# Altium schematic symbol library MaWei.SchLib: 69 symbols
Pins are listed as number, name and electrical type; pins without a type are passive.

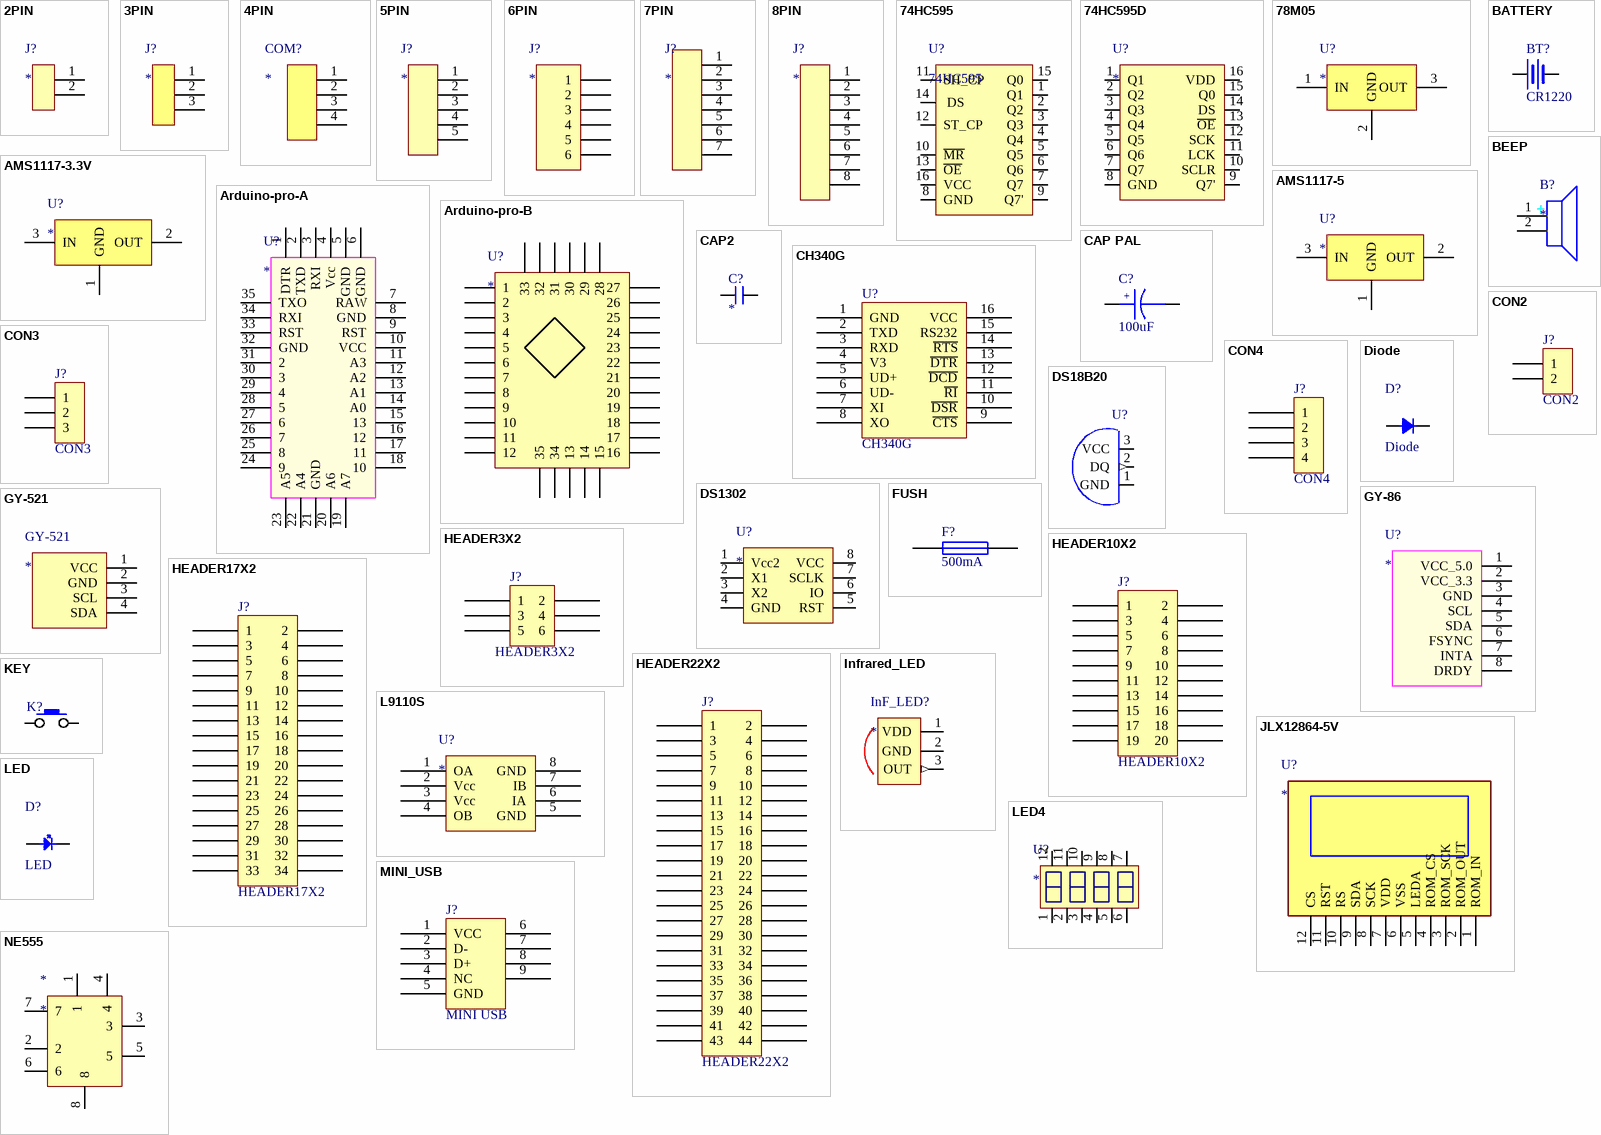
[diagram p0: symbols 2PIN to NE555]

## 2PIN
designator J?
footprint 2PIN
pins: 1, 2

## 3PIN
designator J?
footprint 3PIN
pins: 1, 2, 3

## 4PIN
designator COM?
footprint ISP
pins: 1, 2, 3, 4

## 5PIN
designator J?
footprint 5PIN
pins: 1, 2, 3, 4, 5

## 6PIN
designator J?
footprint 6PIN
pins: 1, 2, 3, 4, 5, 6

## 7PIN
designator J?
footprint 7PIN
pins: 1, 2, 3, 4, 5, 6, 7

## 8PIN
designator J?
footprint 8PIN
pins: 1, 2, 3, 4, 5, 6, 7, 8

## 74HC595
designator U?
footprint SOP16
pins: 1 Q1, 2 Q2, 3 Q3, 4 Q4, 5 Q5, 6 Q6, 7 Q7, 8 GND, 9 Q7', 10 ~{MR}, 11 SH_CP, 12 ST_CP, 13 ~{OE}, 14  DS, 15 Q0, 16 VCC

## 74HC595D
designator U?
footprint SOP16
pins: 1 Q1, 2 Q2, 3 Q3, 4 Q4, 5 Q5, 6 Q6, 7 Q7, 8 GND, 9 Q7', 10 SCLR, 11 LCK, 12 SCK, 13 ~{OE}, 14 DS, 15 Q0, 16 VDD

## 78M05
designator U?
footprint 78M05 (D-PAK, 3-Pads, Body 6.3x6.8mm (max), IPC Medium Density)
pins: 1 IN, 2 GND, 3 OUT

## AMS1117-3.3V
designator U?
footprint AMS1117-3.3 (SOT223, 4-Leads, Body 6.7x7.3mm (max), Pitch 2.29mm, IPC Medium Density)
pins: 1 GND, 2 OUT, 3 IN

## AMS1117-5
designator U?
footprint ASM1117-5
pins: 1 GND, 2 OUT, 3 IN

## Arduino-pro-A
designator U?
footprint Arduino-pro-A
pins: 1 DTR, 2 TXD, 3 RXI, 4 Vcc, 5 GND, 6 GND, 7 RAW, 8 GND, 9 RST, 10 VCC, 11 A3, 12 A2, 13 A1, 14 A0, 15 13, 16 12, 17 11, 18 10, 19 A7, 20 A6, 21 GND, 22 A4, 23 A5, 24 9, 25 8, 26 7, 27 6, 28 5, 29 4, 30 3, 31 2, 32 GND, 33 RST, 34 RXI, 35 TXO

## Arduino-pro-B
designator U?
footprint Arduino-pro-B
pins: 1, 2, 3, 4, 5, 6, 7, 8, 9, 10, 11, 12, 13, 14, 15, 16, 17, 18, 19, 20, 21, 22, 23, 24, 25, 26, 27, 28, 29, 30, 31, 32, 33, 34, 35

## BATTERY
designator BT?, comment CR1220
footprint CR1220
footprint BATTERY
pins: 1 +, 2 -

## BEEP
designator B?
footprint BEEP
pins: 1, 2
text: +

## CAP2
designator C?
footprint 0805
pins: 1, 2

## CAP PAL
designator C?, comment 100uF
footprint CAP5X5_4
pins: 1, 2
text: +

## CH340G
designator U?
footprint SOP16
pins: 1 GND, 2 TXD, 3 RXD, 4 V3, 5 UD+, 6 UD-, 7 XI, 8 XO, 9 ~{CTS}, 10 ~{DSR}, 11 ~{RI}, 12 ~{DCD}, 13 ~{DTR}, 14 ~{RTS}, 15 RS232, 16 VCC

## CON2
designator J?
footprint WJ301-2P
footprint SIP2
pins: 1, 2

## CON3
designator J?
footprint SIP3
pins: 1, 2, 3

## CON4
designator J?
footprint SIP4
pins: 1, 2, 3, 4

## Diode
designator D?
footprint IE
footprint LED0805
pins: 1 A, 2 K

## DS18B20
designator U?  (value not drawn)
DS18B20
footprint 3PIN
pins: 1 GND, 2 DQ (out), 3 VCC

## DS1302
designator U?
footprint SOP8
pins: 1 Vcc2, 2 X1, 3 X2, 4 GND, 5 RST, 6 IO, 7 SCLK, 8 VCC

## FUSH
designator F?, comment 500mA
footprint RES0805
pins: 1, 2

## GY-86
designator U?
footprint GY-86-B
footprint GY-86-A
pins: 1 VCC_5.0, 2 VCC_3.3, 3 GND, 4 SCL, 5 SDA, 6 FSYNC, 7 INTA, 8 DRDY

## GY-521
designator GY-521
footprint GY-521
pins: 1 VCC, 2 GND, 3 SCL, 4 SDA

## HEADER3X2
designator J?
footprint HEADER3X2
pins: 1, 2, 3, 4, 5, 6

## HEADER10X2
designator J?
footprint JTAG
pins: 1, 2, 3, 4, 5, 6, 7, 8, 9, 10, 11, 12, 13, 14, 15, 16, 17, 18, 19, 20

## HEADER17X2
designator J?
footprint HEADER17X2
pins: 1, 2, 3, 4, 5, 6, 7, 8, 9, 10, 11, 12, 13, 14, 15, 16, 17, 18, 19, 20, 21, 22, 23, 24, 25, 26, 27, 28, 29, 30, 31, 32, 33, 34

## HEADER22X2
designator J?
footprint HEADER22X2
footprint HEADER22X2
pins: 1, 2, 3, 4, 5, 6, 7, 8, 9, 10, 11, 12, 13, 14, 15, 16, 17, 18, 19, 20, 21, 22, 23, 24, 25, 26, 27, 28, 29, 30, 31, 32, 33, 34, 35, 36, 37, 38, 39, 40, 41, 42, 43, 44

## Infrared_LED
designator InF_LED?
footprint IR
pins: 1 VDD, 2 GND, 3 OUT (out)

## JLX12864-5V
designator U?
footprint JXL12864-5V
pins: 1 ROM_IN, 2 ROM_OUT, 3 ROM_SCK, 4 ROM_CS, 5 LEDA, 6 VSS, 7 VDD, 8 SCK, 9 SDA, 10 RS, 11 RST, 12 CS

## KEY
designator K?  (value not drawn)
footprint KEY
pins: 1, 2

## L9110S
designator U?
footprint SOP8
pins: 1 OA, 2 Vcc, 3 Vcc, 4 OB, 5 GND, 6 IA, 7 IB, 8 GND

## LED
designator D?
footprint IE
footprint LED0805
pins: 1 A, 2 K

## LED4
designator U?
pins: 1, 2, 3, 4, 5, 6, 7, 8, 9, 10, 11, 12

## MINI_USB
designator J?, comment MINI USB
footprint MINI_USB
pins: 1 VCC, 2 D-, 3 D+, 4 NC, 5 GND, 6, 7, 8, 9

## NE555
designator *
footprint SOP8
pins: 1, 2, 3, 4, 5, 6, 7, 8

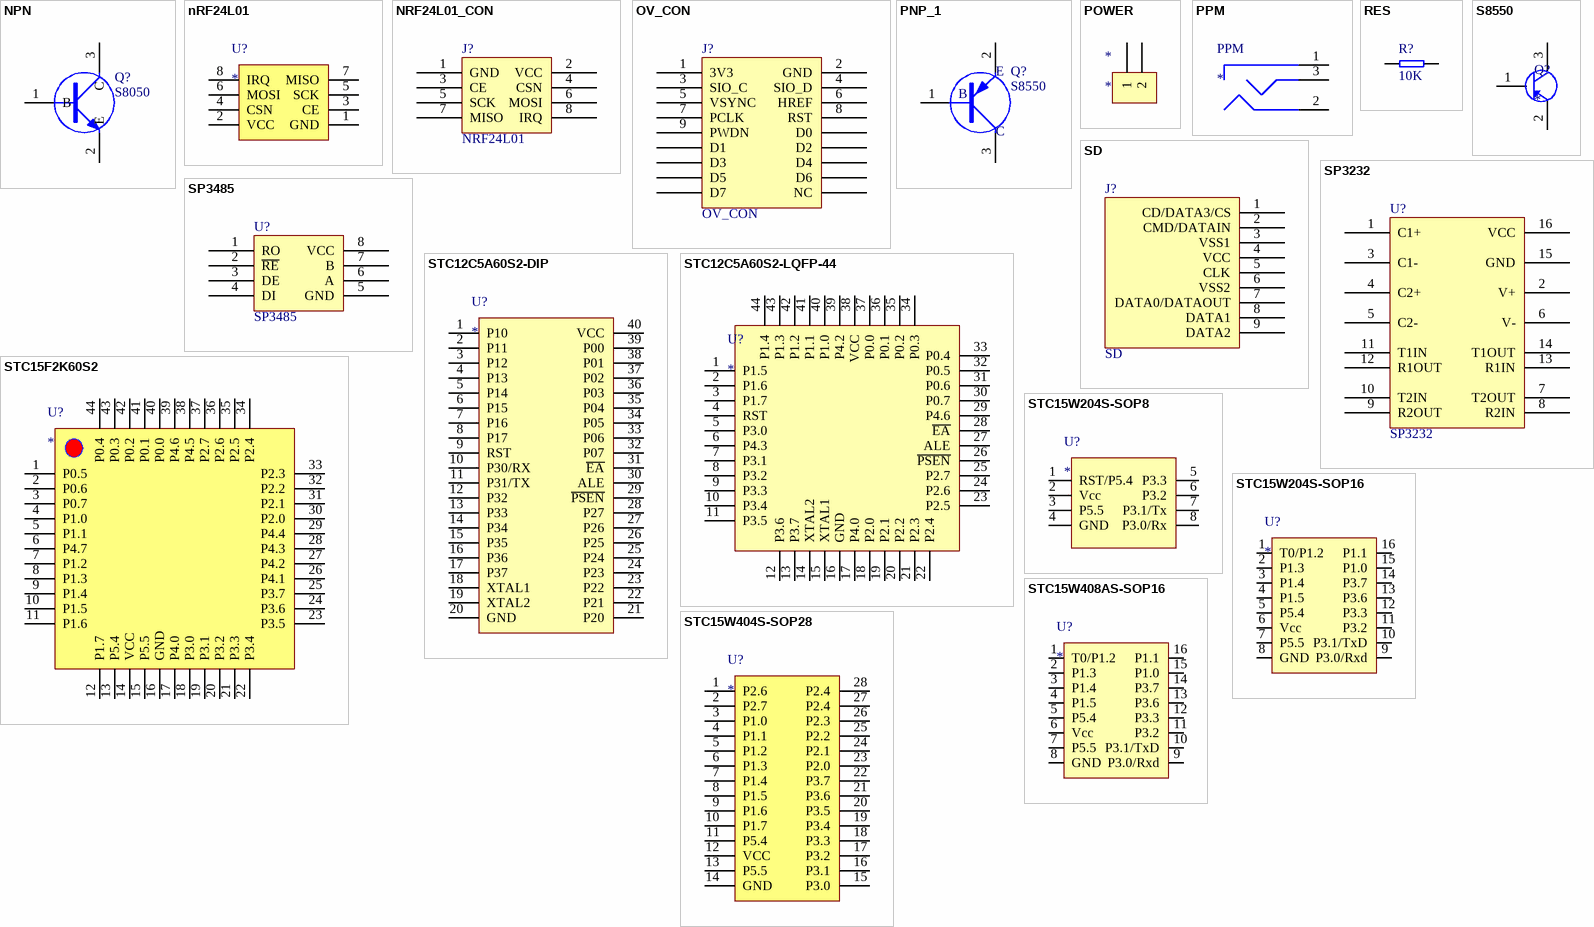
[diagram p1: symbols NPN to STC15W408AS-SOP16]

## NPN
designator Q?, comment S8050
footprint SOT-23
pins: 1 B, 2 E, 3 C

## nRF24L01
designator U?
footprint nRF24L01
pins: 1 GND, 2 VCC, 3 CE, 4 CSN, 5 SCK, 6 MOSI, 7 MISO, 8 IRQ

## NRF24L01_CON
designator J?, comment NRF24L01
footprint HEADER4X2_M
pins: 1 GND, 2 VCC, 3 CE, 4 CSN, 5 SCK, 6 MOSI, 7 MISO, 8 IRQ

## OV_CON
designator J?
footprint HEADER9X2
pins: 1 3V3, 2 GND, 3 SIO_C, 4 SIO_D, 5 VSYNC, 6 HREF, 7 PCLK, 8 RST, 9 PWDN, 10 D0, 11 D1, 12 D2, 13 D3, 14 D4, 15 D5, 16 D6, 17 D7, 18 NC

## PNP_1
designator Q?, comment S8550
footprint SOT-23
pins: 1 B, 2 E, 3 C

## POWER
designator *
footprint POWER
pins: 1, 2

## PPM
designator PPM
footprint PPM
pins: 1, 2, 3

## RES
designator R?, comment 10K
footprint RES0603
footprint RES0805
pins: 1, 2

## S8550
designator Q?
footprint S8550 - duplicate
footprint S8550
pins: 1, 2, 3

## SD
designator J?
footprint SD
pins: 1 CD/DATA3/CS, 2 CMD/DATAIN, 3 VSS1, 4 VCC, 5 CLK, 6 VSS2, 7 DATA0/DATAOUT, 8 DATA1, 9 DATA2

## SP3232
designator U?
footprint SOP16
pins: 1 C1+, 2 V+, 3 C1-, 4 C2+, 5 C2-, 6 V-, 7 T2OUT, 8 R2IN, 9 R2OUT, 10 T2IN, 11 T1IN, 12 R1OUT, 13 R1IN, 14 T1OUT, 15 GND, 16 VCC

## SP3485
designator U?
footprint SOP8
pins: 1 RO, 2 ~{RE}, 3 DE, 4 DI, 5 GND, 6 A, 7 B, 8 VCC

## STC12C5A60S2-DIP
designator U?
footprint DIP40
pins: 1 P10, 2 P11, 3 P12, 4 P13, 5 P14, 6 P15, 7 P16, 8 P17, 9 RST, 10 P30/RX, 11 P31/TX, 12 P32, 13 P33, 14 P34, 15 P35, 16 P36, 17 P37, 18 XTAL1, 19 XTAL2, 20 GND, 21 P20, 22 P21, 23 P22, 24 P23, 25 P24, 26 P25, 27 P26, 28 P27, 29 ~{PSEN}, 30 ALE, 31 ~{EA}, 32 P07, 33 P06, 34 P05, 35 P04, 36 P03, 37 P02, 38 P01, 39 P00, 40 VCC

## STC12C5A60S2-LQFP-44
designator U?
footprint STC15F2K60S2 (TQFP, 44-Leads, Body 12.0x12.0mm (max), Pitch 0.80mm, IPC Medium Density)
pins: 1 P1.5, 2 P1.6, 3 P1.7, 4 RST, 5 P3.0, 6 P4.3, 7 P3.1, 8 P3.2, 9 P3.3, 10 P3.4, 11 P3.5, 12 P3.6, 13 P3.7, 14 XTAL2, 15 XTAL1, 16 GND, 17 P4.0, 18 P2.0, 19 P2.1, 20 P2.2, 21 P2.3, 22 P2.4, 23 P2.5, 24 P2.6, 25 P2.7, 26 ~{PSEN}, 27 ALE, 28 ~{EA}, 29 P4.6, 30 P0.7, 31 P0.6, 32 P0.5, 33 P0.4, 34 P0.3, 35 P0.2, 36 P0.1, 37 P0.0, 38 VCC, 39 P4.2, 40 P1.0, 41 P1.1, 42 P1.2, 43 P1.3, 44 P1.4

## STC15F2K60S2
designator U?
footprint STC15F2K60S2 (TQFP, 44-Leads, Body 12.0x12.0mm (max), Pitch 0.80mm, IPC Medium Density)
pins: 1 P0.5, 2 P0.6, 3 P0.7, 4 P1.0, 5 P1.1, 6 P4.7, 7 P1.2, 8 P1.3, 9 P1.4, 10 P1.5, 11 P1.6, 12 P1.7, 13 P5.4, 14 VCC, 15 P5.5, 16 GND, 17 P4.0, 18 P3.0, 19 P3.1, 20 P3.2, 21 P3.3, 22 P3.4, 23 P3.5, 24 P3.6, 25 P3.7, 26 P4.1, 27 P4.2, 28 P4.3, 29 P4.4, 30 P2.0, 31 P2.1, 32 P2.2, 33 P2.3, 34 P2.4, 35 P2.5, 36 P2.6, 37 P2.7, 38 P4.5, 39 P4.6, 40 P0.0, 41 P0.1, 42 P0.2, 43 P0.3, 44 P0.4

## STC15W204S-SOP8
designator U?
pins: 1 RST/P5.4, 2 Vcc, 3 P5.5, 4 GND, 5 P3.3, 6 P3.2, 7 P3.1/Tx, 8 P3.0/Rx

## STC15W204S-SOP16
designator U?
footprint SOP16
pins: 1 T0/P1.2, 2 P1.3, 3 P1.4, 4 P1.5, 5 P5.4, 6 Vcc, 7 P5.5, 8 GND, 9 P3.0/Rxd, 10 P3.1/TxD, 11 P3.2, 12 P3.3, 13 P3.6, 14 P3.7, 15 P1.0, 16 P1.1

## STC15W404S-SOP28
designator U?
footprint STC15W204S (SOP, 28-Leads, Body 18.1x7.6mm (max), Pitch 1.27mm, IPC Medium Density)
pins: 1 P2.6, 2 P2.7, 3 P1.0, 4 P1.1, 5 P1.2, 6 P1.3, 7 P1.4, 8 P1.5, 9 P1.6, 10 P1.7, 11 P5.4, 12 VCC, 13 P5.5, 14 GND, 15 P3.0, 16 P3.1, 17 P3.2, 18 P3.3, 19 P3.4, 20 P3.5, 21 P3.6, 22 P3.7, 23 P2.0, 24 P2.1, 25 P2.2, 26 P2.3, 27 P2.4, 28 P2.4

## STC15W408AS-SOP16
designator U?
footprint SOP16
pins: 1 T0/P1.2, 2 P1.3, 3 P1.4, 4 P1.5, 5 P5.4, 6 Vcc, 7 P5.5, 8 GND, 9 P3.0/Rxd, 10 P3.1/TxD, 11 P3.2, 12 P3.3, 13 P3.6, 14 P3.7, 15 P1.0, 16 P1.1

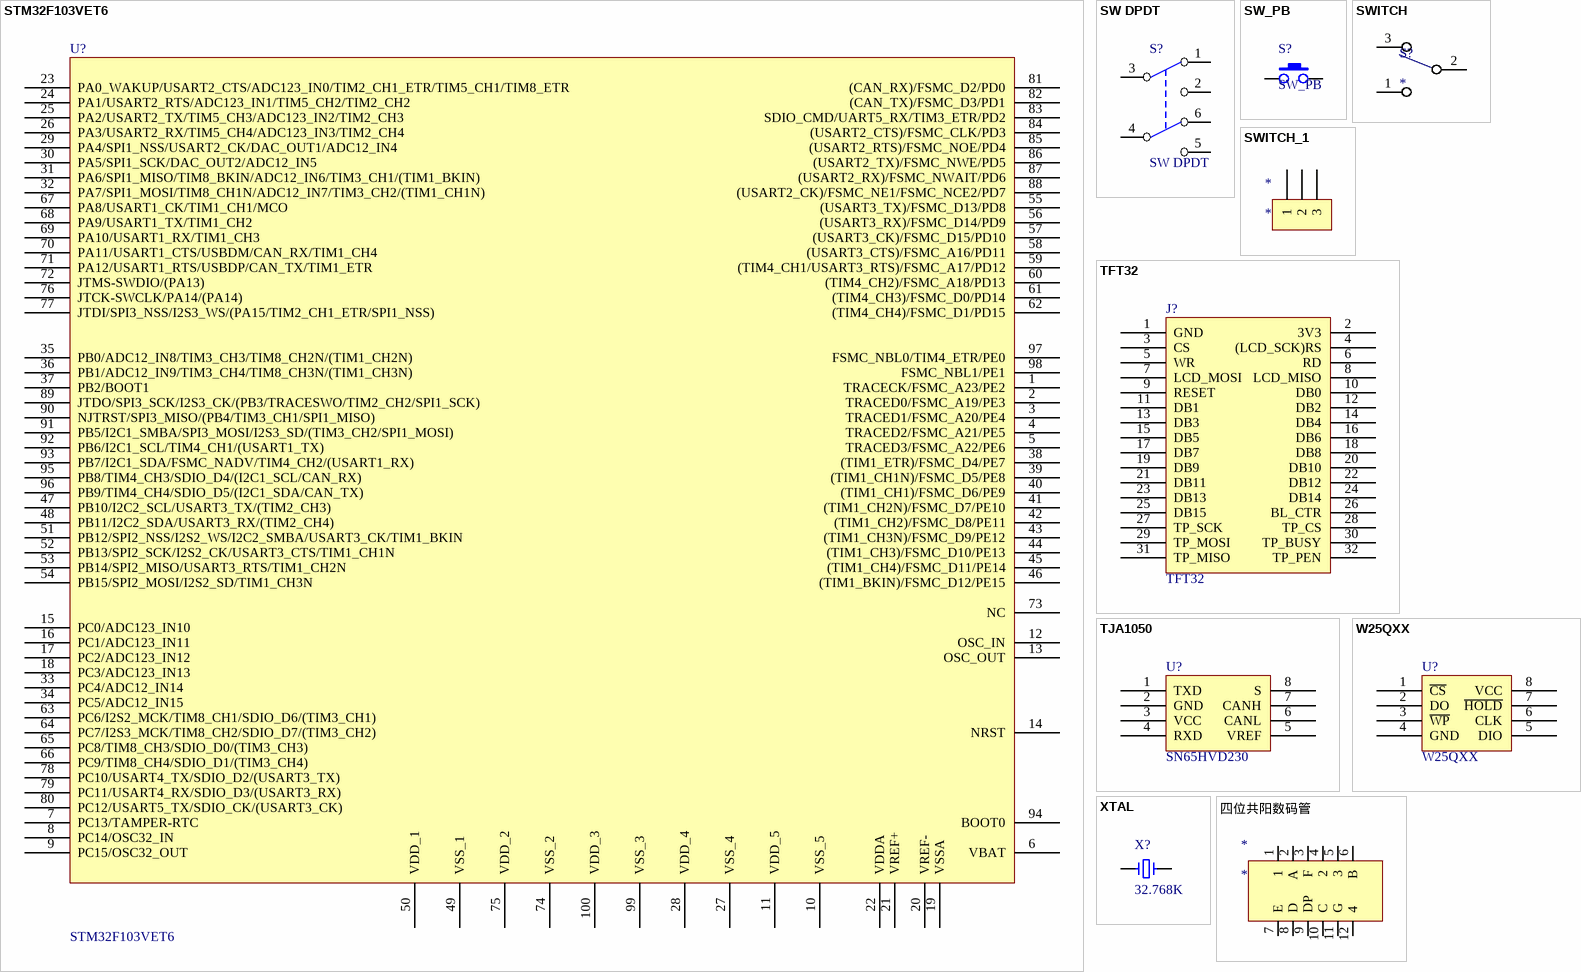
[diagram p2: symbols STM32F103VET6 to 四位共阳数码管]

## STM32F103VET6
designator U?
footprint LQFP100
pins: 1 TRACECK/FSMC_A23/PE2, 2 TRACED0/FSMC_A19/PE3, 3 TRACED1/FSMC_A20/PE4, 4 TRACED2/FSMC_A21/PE5, 5 TRACED3/FSMC_A22/PE6, 6 VBAT, 7 PC13/TAMPER-RTC, 8 PC14/OSC32_IN, 9 PC15/OSC32_OUT, 10 VSS_5, 11 VDD_5, 12 OSC_IN, 13 OSC_OUT, 14 NRST, 15 PC0/ADC123_IN10, 16 PC1/ADC123_IN11, 17 PC2/ADC123_IN12, 18 PC3/ADC123_IN13, 19 VSSA, 20 VREF-, 21 VREF+, 22 VDDA, 23 PA0_WAKUP/USART2_CTS/ADC123_IN0/TIM2_CH1_ETR/TIM5_CH1/TIM8_ETR, 24 PA1/USART2_RTS/ADC123_IN1/TIM5_CH2/TIM2_CH2, 25 PA2/USART2_TX/TIM5_CH3/ADC123_IN2/TIM2_CH3, 26 PA3/USART2_RX/TIM5_CH4/ADC123_IN3/TIM2_CH4, 27 VSS_4, 28 VDD_4, 29 PA4/SPI1_NSS/USART2_CK/DAC_OUT1/ADC12_IN4, 30 PA5/SPI1_SCK/DAC_OUT2/ADC12_IN5, 31 PA6/SPI1_MISO/TIM8_BKIN/ADC12_IN6/TIM3_CH1/(TIM1_BKIN), 32 PA7/SPI1_MOSI/TIM8_CH1N/ADC12_IN7/TIM3_CH2/(TIM1_CH1N), 33 PC4/ADC12_IN14, 34 PC5/ADC12_IN15, 35 PB0/ADC12_IN8/TIM3_CH3/TIM8_CH2N/(TIM1_CH2N), 36 PB1/ADC12_IN9/TIM3_CH4/TIM8_CH3N/(TIM1_CH3N), 37 PB2/BOOT1, 38 (TIM1_ETR)/FSMC_D4/PE7, 39 (TIM1_CH1N)/FSMC_D5/PE8, 40 (TIM1_CH1)/FSMC_D6/PE9, 41 (TIM1_CH2N)/FSMC_D7/PE10, 42 (TIM1_CH2)/FSMC_D8/PE11, 43 (TIM1_CH3N)/FSMC_D9/PE12, 44 (TIM1_CH3)/FSMC_D10/PE13, 45 (TIM1_CH4)/FSMC_D11/PE14, 46 (TIM1_BKIN)/FSMC_D12/PE15, 47 PB10/I2C2_SCL/USART3_TX/(TIM2_CH3), 48 PB11/I2C2_SDA/USART3_RX/(TIM2_CH4), 49 VSS_1, 50 VDD_1, 51 PB12/SPI2_NSS/I2S2_WS/I2C2_SMBA/USART3_CK/TIM1_BKIN, 52 PB13/SPI2_SCK/I2S2_CK/USART3_CTS/TIM1_CH1N, 53 PB14/SPI2_MISO/USART3_RTS/TIM1_CH2N, 54 PB15/SPI2_MOSI/I2S2_SD/TIM1_CH3N, 55 (USART3_TX)/FSMC_D13/PD8, 56 (USART3_RX)/FSMC_D14/PD9, 57 (USART3_CK)/FSMC_D15/PD10, 58 (USART3_CTS)/FSMC_A16/PD11, 59 (TIM4_CH1/USART3_RTS)/FSMC_A17/PD12, 60 (TIM4_CH2)/FSMC_A18/PD13, 61 (TIM4_CH3)/FSMC_D0/PD14, 62 (TIM4_CH4)/FSMC_D1/PD15, 63 PC6/I2S2_MCK/TIM8_CH1/SDIO_D6/(TIM3_CH1), 64 PC7/I2S3_MCK/TIM8_CH2/SDIO_D7/(TIM3_CH2), 65 PC8/TIM8_CH3/SDIO_D0/(TIM3_CH3), 66 PC9/TIM8_CH4/SDIO_D1/(TIM3_CH4), 67 PA8/USART1_CK/TIM1_CH1/MCO, 68 PA9/USART1_TX/TIM1_CH2, 69 PA10/USART1_RX/TIM1_CH3, 70 PA11/USART1_CTS/USBDM/CAN_RX/TIM1_CH4, 71 PA12/USART1_RTS/USBDP/CAN_TX/TIM1_ETR, 72 JTMS-SWDIO/(PA13), 73 NC, 74 VSS_2, 75 VDD_2, 76 JTCK-SWCLK/PA14/(PA14), 77 JTDI/SPI3_NSS/I2S3_WS/(PA15/TIM2_CH1_ETR/SPI1_NSS), 78 PC10/USART4_TX/SDIO_D2/(USART3_TX), 79 PC11/USART4_RX/SDIO_D3/(USART3_RX), 80 PC12/USART5_TX/SDIO_CK/(USART3_CK), 81 (CAN_RX)/FSMC_D2/PD0, 82 (CAN_TX)/FSMC_D3/PD1, 83 SDIO_CMD/UART5_RX/TIM3_ETR/PD2, 84 (USART2_CTS)/FSMC_CLK/PD3, 85 (USART2_RTS)/FSMC_NOE/PD4, 86 (USART2_TX)/FSMC_NWE/PD5, 87 (USART2_RX)/FSMC_NWAIT/PD6, 88 (USART2_CK)/FSMC_NE1/FSMC_NCE2/PD7, 89 JTDO/SPI3_SCK/I2S3_CK/(PB3/TRACESWO/TIM2_CH2/SPI1_SCK), 90 NJTRST/SPI3_MISO/(PB4/TIM3_CH1/SPI1_MISO), 91 PB5/I2C1_SMBA/SPI3_MOSI/I2S3_SD/(TIM3_CH2/SPI1_MOSI), 92 PB6/I2C1_SCL/TIM4_CH1/(USART1_TX), 93 PB7/I2C1_SDA/FSMC_NADV/TIM4_CH2/(USART1_RX), 94 BOOT0, 95 PB8/TIM4_CH3/SDIO_D4/(I2C1_SCL/CAN_RX), 96 PB9/TIM4_CH4/SDIO_D5/(I2C1_SDA/CAN_TX), 97 FSMC_NBL0/TIM4_ETR/PE0, 98 FSMC_NBL1/PE1, 99 VSS_3, 100 VDD_3

## SW DPDT
designator S?
footprint KF8.0
pins: 1, 2, 3, 4, 5, 6

## SW_PB
designator S?
footprint KEY4_SMD
pins: 1, 2

## SWITCH
designator S?
footprint SWITCH
pins: 1, 2, 3

## SWITCH_1
designator *
footprint SWITCH
pins: 1, 2, 3

## TFT32
designator J?
footprint HEADER16X2_M
pins: 1 GND, 2 3V3, 3 CS, 4 (LCD_SCK)RS, 5 WR, 6 RD, 7 LCD_MOSI, 8 LCD_MISO, 9 RESET, 10 DB0, 11 DB1, 12 DB2, 13 DB3, 14 DB4, 15 DB5, 16 DB6, 17 DB7, 18 DB8, 19 DB9, 20 DB10, 21 DB11, 22 DB12, 23 DB13, 24 DB14, 25 DB15, 26 BL_CTR, 27 TP_SCK, 28 TP_CS, 29 TP_MOSI, 30 TP_BUSY, 31 TP_MISO, 32 TP_PEN

## TJA1050
designator U?, comment SN65HVD230
footprint SOP8
pins: 1 TXD, 2 GND, 3 VCC, 4 RXD, 5 VREF, 6 CANL, 7 CANH, 8 S

## W25QXX
designator U?
footprint WSOP8
pins: 1 ~{CS}, 2 DO, 3 ~{WP}, 4 GND, 5 DIO, 6 CLK, 7 ~{HOLD}, 8 VCC

## XTAL
designator X?, comment 32.768K
footprint XTAL
footprint FC-135
pins: 1, 2

## 四位共阳数码管
designator *
pins: 1, 2 A, 3 F, 4 2, 5 3, 6 B, 7 E, 8 D, 9 DP, 10 C, 11 G, 12 4